# Altium integrated library Bosh Environmental Sensors.IntLib: 1 symbol
Pins are listed as number, name and electrical type; pins without a type are passive.

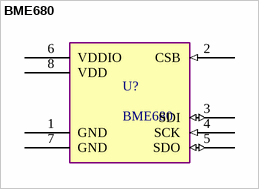
[diagram p0: symbol BME680]

## BME680
designator U?
Low power gas, pressure, temperature and humidity sensor; Supplier 1: Mouser; Supplier Part Number 1: 262-BME680; ComponentLink1Description: Datasheet; ComponentLink1URL: https://ae-bst.resource.bosch.com/media/_tech/media/datasheets/BST-BME680-DS001-00.pdf
pins: 1 GND (power) "Ground", 2 CSB (in) "Chip select", 3 SDI (io) "Serial data input", 4 SCK (in) "Serial clock input", 5 SDO (io) "Serial data output", 6 VDDIO (power) "Digital/Interface supply", 7 GND (power) "Ground", 8 VDD (power) "Analog supply"